# EAGLE library part MCP355* (library microchip)
22 bit Delta-Sigma ADC MCP3550 : 14sps, 50Hz or 60Hz rejection MCP3551 : 14sps , 50/60Hz simuitaneously rejection MCP3553 : 60sps, No rejection
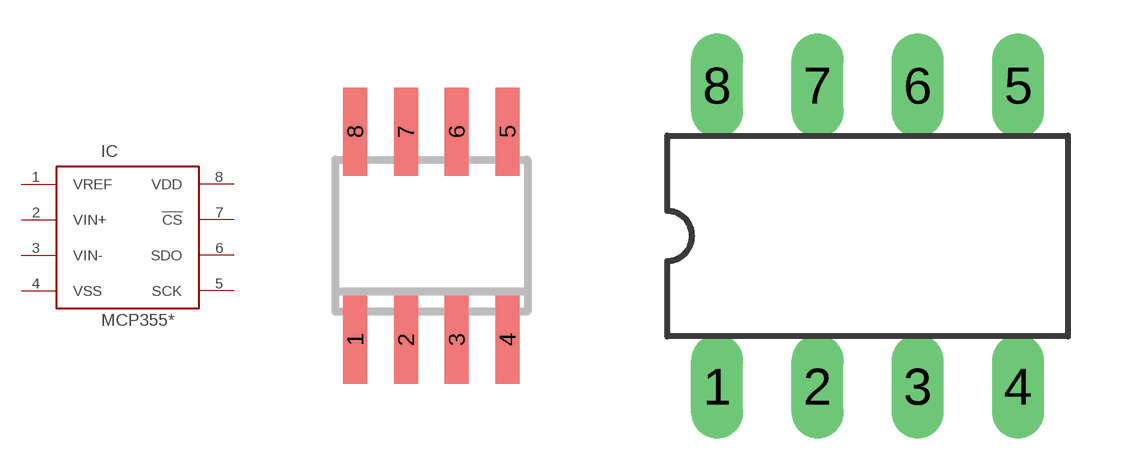
[diagram p27: symbol with the pads of SO-08; footprints SO-08, DIL8]

Designator prefix IC

## MCP3550SO, MCP3551SO, MCP3553SO  [SO-08]
1  VREF
2  VIN+
3  VIN-
4  VSS
5  SCK
6  SDO
7  !CS
8  VDD

## MCP3550DIL, MCP3551DIL, MCP3553DIL  [DIL8]
Pads as for SO-08

## Footprint SO-08 (pad centres in mm)
Small Outline Narrow Plastic Gull Wing 150-mil body, package type SN
smd 0.6 x 2.2: 1 -1.905,-2.6; 2 -0.635,-2.6; 3 0.635,-2.6; 4 1.905,-2.6; 5 1.905,2.6; 6 0.635,2.6; 7 -0.635,2.6; 8 -1.905,2.6

## Footprint DIL8 (pad centres in mm)
Dual In Line package type P
drill 0.813 long: 1 -3.81,-3.81; 2 -1.27,-3.81; 3 1.27,-3.81; 4 3.81,-3.81; 5 3.81,3.81; 6 1.27,3.81; 7 -1.27,3.81; 8 -3.81,3.81